# Altium schematic symbol library hirose-df12.SchLib: 7 symbols
Pins are listed as number, name and electrical type; pins without a type are passive.

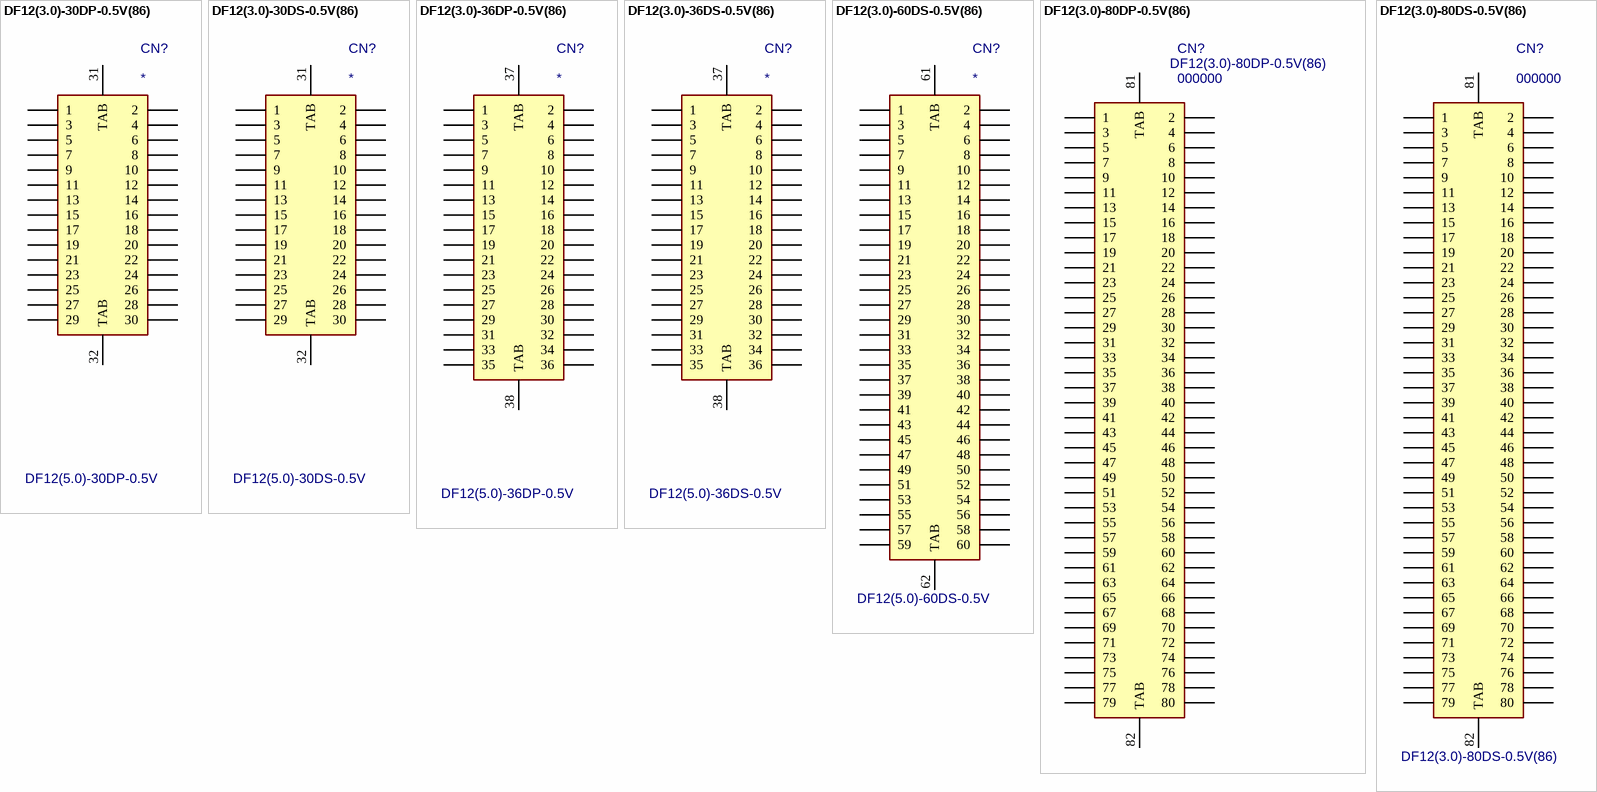
[diagram p0: symbols DF12(3.0)-30DP-0.5V(86) to DF12(3.0)-80DS-0.5V(86)]

## DF12(3.0)-30DP-0.5V(86)
designator CN?  value DF12(5.0)-30DP-0.5V
0.5mm Pitch SMT Board to Board Connector, 30 Pos, Metal Fitting; PN: *; Package: SMT; ExtraInfo: *
footprint DF12#-60DS-0.5V (0.5mm Pitch SMT Board to Board Connector, 60 Positions, Metal Fitting)
pins: 1, 2, 3, 4, 5, 6, 7, 8, 9, 10, 11, 12, 13, 14, 15, 16, 17, 18, 19, 20, 21, 22, 23, 24, 25, 26, 27, 28, 29, 30, 31 TAB, 32 TAB

## DF12(3.0)-30DS-0.5V(86)
designator CN?  value DF12(5.0)-30DS-0.5V
0.5mm Pitch SMT Board to Board Connector, 30 Pos, Metal Fitting; PN: *; Package: SMT; ExtraInfo: *
footprint DF12#-60DS-0.5V (0.5mm Pitch SMT Board to Board Connector, 60 Positions, Metal Fitting)
pins: 1, 2, 3, 4, 5, 6, 7, 8, 9, 10, 11, 12, 13, 14, 15, 16, 17, 18, 19, 20, 21, 22, 23, 24, 25, 26, 27, 28, 29, 30, 31 TAB, 32 TAB

## DF12(3.0)-36DP-0.5V(86)
designator CN?  value DF12(5.0)-36DP-0.5V
0.5mm Pitch SMT Board to Board Connector, 36 Pos, Metal Fitting; PN: *; Package: SMT; ExtraInfo: *
footprint DF12(3.0)-36DP-0.5V(86) (0.5mm Pitch SMT Board to Board Connector, 36 Positions, Metal Fitting)
pins: 1, 2, 3, 4, 5, 6, 7, 8, 9, 10, 11, 12, 13, 14, 15, 16, 17, 18, 19, 20, 21, 22, 23, 24, 25, 26, 27, 28, 29, 30, 31, 32, 33, 34, 35, 36, 37 TAB, 38 TAB

## DF12(3.0)-36DS-0.5V(86)
designator CN?  value DF12(5.0)-36DS-0.5V
0.5mm Pitch SMT Board to Board Connector, 36 Pos, Metal Fitting; PN: *; Package: SMT; ExtraInfo: *
footprint DF12(3.0)-36DS-0.5V(86) (0.5mm Pitch SMT Board to Board Connector, 36 Positions, Metal Fitting)
pins: 1, 2, 3, 4, 5, 6, 7, 8, 9, 10, 11, 12, 13, 14, 15, 16, 17, 18, 19, 20, 21, 22, 23, 24, 25, 26, 27, 28, 29, 30, 31, 32, 33, 34, 35, 36, 37 TAB, 38 TAB

## DF12(3.0)-60DS-0.5V(86)
designator CN?  value DF12(5.0)-60DS-0.5V
0.5mm Pitch SMT Board to Board Connector, 60 Pos, Metal Fitting; PN: *; Package: *; ExtraInfo: *
footprint DF12#-60DS-0.5V (0.5mm Pitch SMT Board to Board Connector, 60 Positions, Metal Fitting)
pins: 1, 2, 3, 4, 5, 6, 7, 8, 9, 10, 11, 12, 13, 14, 15, 16, 17, 18, 19, 20, 21, 22, 23, 24, 25, 26, 27, 28, 29, 30, 31, 32, 33, 34, 35, 36, 37, 38, 39, 40, 41, 42, 43, 44, 45, 46, 47, 48, 49, 50, 51, 52, 53, 54, 55, 56, 57, 58, 59, 60, 61 TAB, 62 TAB

## DF12(3.0)-80DP-0.5V(86)
designator CN?, comment 000000  value DF12(3.0)-80DP-0.5V(86)
0.5mm Pitch SMT Board to Board Connector, 80 Pos, Metal Fitting; Package: SMT; PN: 000000; ExtraInfo: *
footprint DF12(3.0)-80DP-0.5V(86) (0.5mm Pitch SMT Board to Board Connector, 80 Positions, Metal Fitting)
footprint DF12(3.0)-80DP-0.5V(86) - V2 (0.5mm Pitch SMT Board to Board Connector, 80 Positions, Metal Fitting)
pins: 1, 2, 3, 4, 5, 6, 7, 8, 9, 10, 11, 12, 13, 14, 15, 16, 17, 18, 19, 20, 21, 22, 23, 24, 25, 26, 27, 28, 29, 30, 31, 32, 33, 34, 35, 36, 37, 38, 39, 40, 41, 42, 43, 44, 45, 46, 47, 48, 49, 50, 51, 52, 53, 54, 55, 56, 57, 58, 59, 60, 61, 62, 63, 64, 65, 66, 67, 68, 69, 70, 71, 72, 73, 74, 75, 76, 77, 78, 79, 80, 81 TAB, 82 TAB

## DF12(3.0)-80DS-0.5V(86)
designator CN?, comment 000000  value DF12(3.0)-80DS-0.5V(86)
0.5mm Pitch SMT Board to Board Connector, 80 Pos, Metal Fitting; PN: 000000; Package: SMT; ExtraInfo: *
footprint DF12(3.0)-80DS-0.5V(86) (0.5mm Pitch SMT Board to Board Connector, 80 Positions, Metal Fitting)
pins: 1, 2, 3, 4, 5, 6, 7, 8, 9, 10, 11, 12, 13, 14, 15, 16, 17, 18, 19, 20, 21, 22, 23, 24, 25, 26, 27, 28, 29, 30, 31, 32, 33, 34, 35, 36, 37, 38, 39, 40, 41, 42, 43, 44, 45, 46, 47, 48, 49, 50, 51, 52, 53, 54, 55, 56, 57, 58, 59, 60, 61, 62, 63, 64, 65, 66, 67, 68, 69, 70, 71, 72, 73, 74, 75, 76, 77, 78, 79, 80, 81 TAB, 82 TAB